# EAGLE library part TIVA-123 (library MRDT-Microcontrollers)
TIVA-C DEV BOARD (NON-CONNECTED)
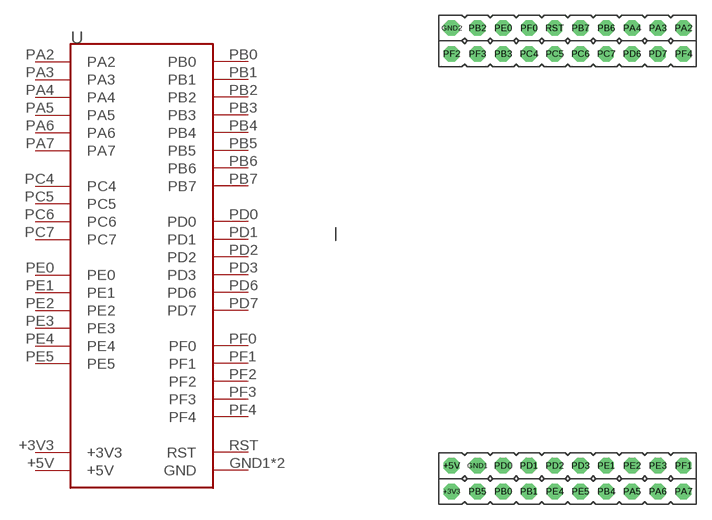
[diagram p1: symbol with the pads of TIVA-C; footprint TIVA-C]

Designator prefix -

## TIVA-123  [TIVA-C]
+3V3  +3V3  pwr
+5V  +5V  pwr
GND1  GND  pwr
GND2  GND  pwr
PA2  PA2
PA3  PA3
PA4  PA4
PA5  PA5
PA6  PA6
PA7  PA7
PB0  PB0
PB1  PB1
PB2  PB2
PB3  PB3
PB4  PB4
PB5  PB5
PB6  PB6
PB7  PB7
PC4  PC4
PC5  PC5
PC6  PC6
PC7  PC7
PD0  PD0
PD1  PD1
PD2  PD2
PD3  PD3
PD6  PD6
PD7  PD7
PE0  PE0
PE1  PE1
PE2  PE2
PE3  PE3
PE4  PE4
PE5  PE5
PF0  PF0
PF1  PF1
PF2  PF2
PF3  PF3
PF4  PF4
RST  RST  pwr

## Footprint TIVA-C (pad centres in mm)
Tiva C LaunchPad layout (non-Connected)
drill 1.016 octagon: +3V3 30.48,2.54; +5V 30.48,5.08; GND1 33.02,5.08; GND2 30.48,48.26; PA2 53.34,48.26; PA3 50.8,48.26; PA4 48.26,48.26; PA5 48.26,2.54; PA6 50.8,2.54; PA7 53.34,2.54; PB0 35.56,2.54; PB1 38.1,2.54; PB2 33.02,48.26; PB3 35.56,45.72; PB4 45.72,2.54; PB5 33.02,2.54; PB6 45.72,48.26; PB7 43.18,48.26; PC4 38.1,45.72; PC5 40.64,45.72; PC6 43.18,45.72; PC7 45.72,45.72; PD0 35.56,5.08; PD1 38.1,5.08; PD2 40.64,5.08; PD3 43.18,5.08; PD6 48.26,45.72; PD7 50.8,45.72; PE0 35.56,48.26; PE1 45.72,5.08; PE2 48.26,5.08; PE3 50.8,5.08; PE4 40.64,2.54; PE5 43.18,2.54; PF0 38.1,48.26; PF1 53.34,5.08; PF2 30.48,45.72; PF3 33.02,45.72; PF4 53.34,45.72; RST 40.64,48.26